# Altium schematic symbol library 3.电磁巡线探头模块原理图库.SCHLIB: 4 symbols
Pins are listed as number, name and electrical type; pins without a type are passive.

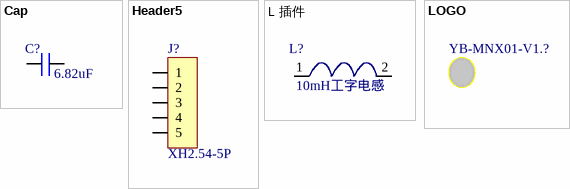
[diagram p0: symbols Cap to LOGO]

## Cap
designator C?, comment 6.82uF
footprint C0402 (Footprint not found)
footprint R-682J100
footprint C0805
footprint C1206
footprint C1210
footprint C1808 (Footprint not found)
pins: 1, 2

## Header5
designator J?, comment XH2.54-5P
footprint XH2.54-WI-5P (接插件，5P)
pins: 1, 2, 3, 4, 5

## L 插件
designator L?, comment 10mH工字电感
footprint IND-TH
pins: 1, 2

## LOGO
designator YB-MNX01-V1.?
footprint 5*7jimukuai
footprint LOGO 20.39MM
footprint LGO 18.77MM Solder
footprint LGO18.77MM
footprint LGP
footprint LOGO 35.8MM  Solder
footprint LOGO 41.5MM Solder
footprint LGO15 OVER
footprint LGO 15MM Top
footprint LOGO 20.39MM
footprint LOGO 20.39MM lou kong